# Altium footprint library 接插件.PcbLib: 22 footprints (part 1 of 2)
Each footprint in its own frame and in the unit in brackets; x right, y up, seen from the top. Pads: shape width x height; smd on the part's side, far side on the other; paste and mask are expansions set on the pad; w line width, h text height; cw(c..) or ccw(c..) is an arc to the next point about the centre after c.
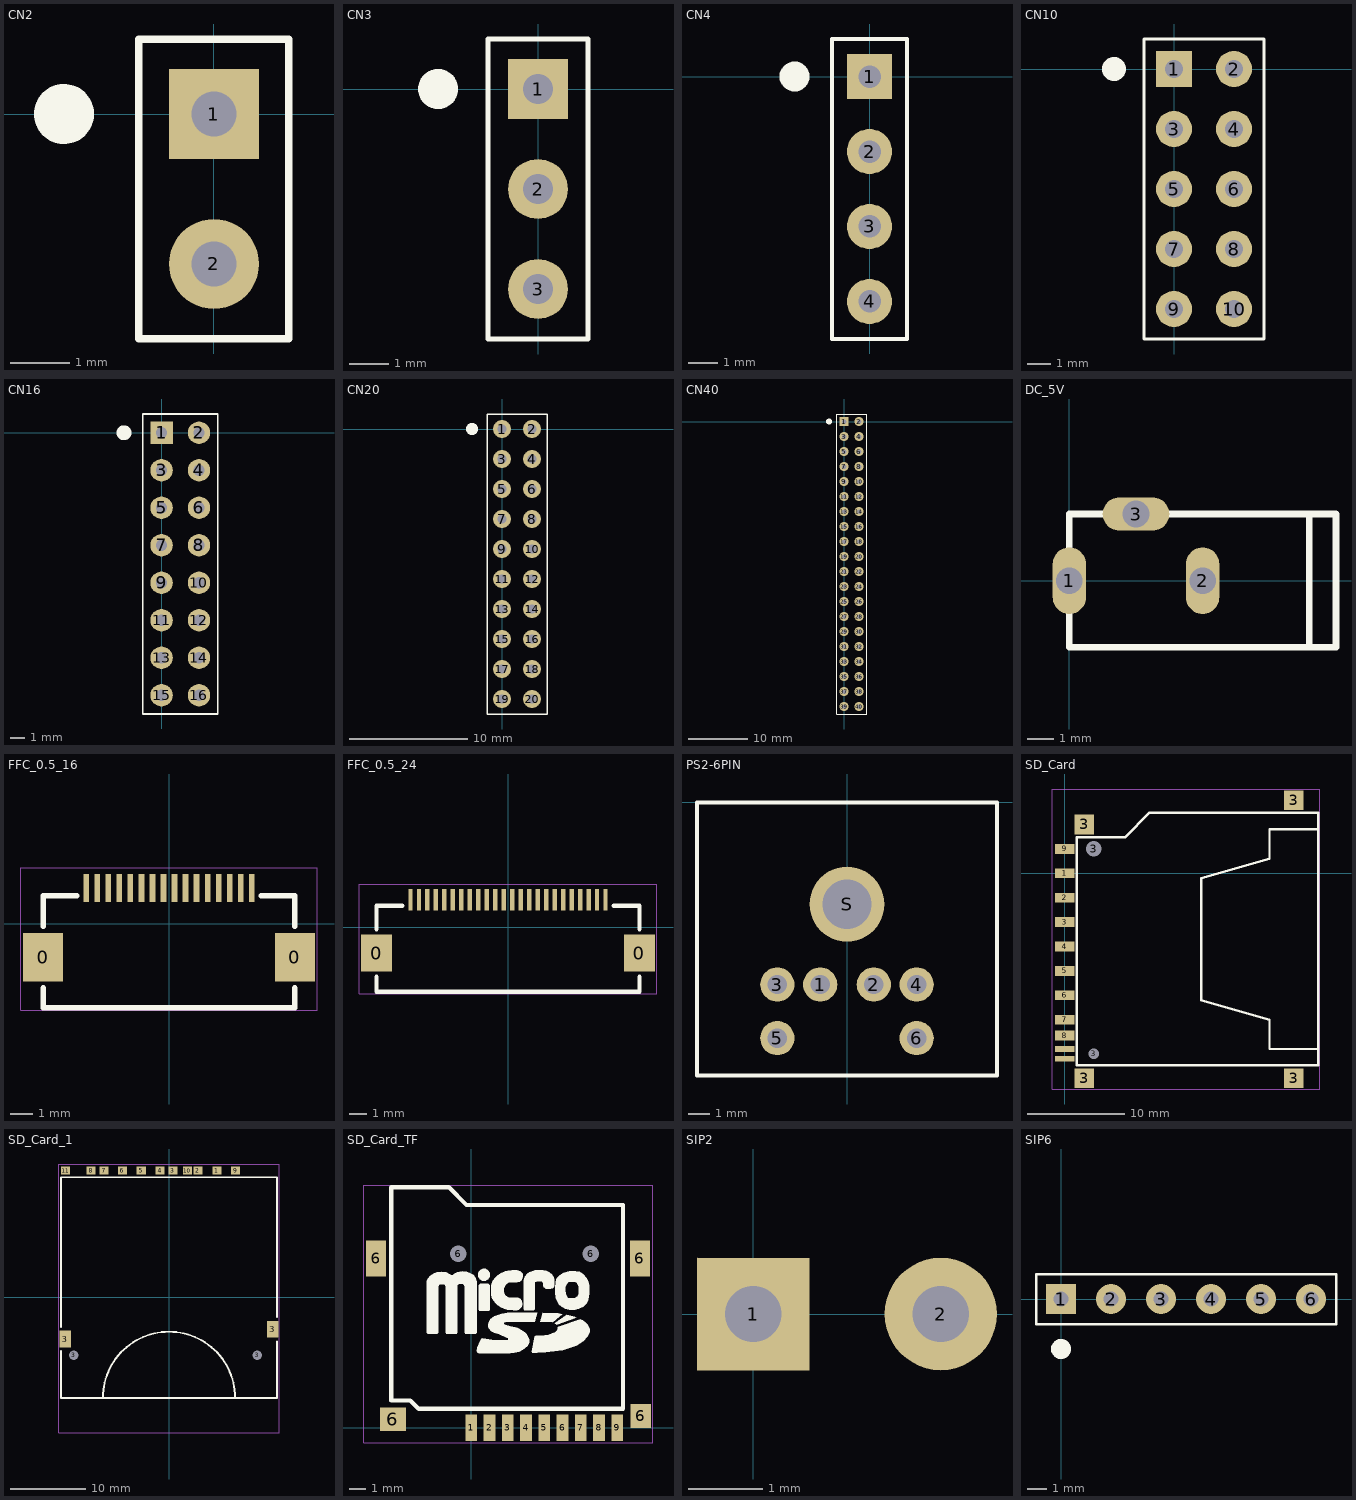
[diagram p0: the footprints below, top view; thin cyan lines are the x and y axes]

## CN2 [mil] "Header 2 X 1"
pads (2):
  rect 60x60 hole 30: 1(0,0)
  round 60 hole 30: 2(0,-100)
Top Overlay:
  circle w20: c-100,0 r10
  lines w5: -50,-150 -50,50 50,50 50,-150 -50,-150

## CN3 [mil] "Hesder 3 X 1"
pads (3):
  rect 60x60 hole 30: 1(0,0)
  round 60 hole 30: 2(0,-100) 3(0,-200)
Top Overlay:
  circle w20: c-100,0 r10
  lines w5: -50,-250 -50,50 50,50 50,-250 -50,-250

## CN4 [mil] "Header 4 X 1"
pads (4):
  rect 60x60 hole 30: 1(0,0)
  round 60 hole 30: 2(0,-100) 3(0,-200) 4(0,-300)
Top Overlay:
  circle w20: c-100,0 r10
  lines w5: -50,-350 50,-350 50,50 -50,50 -50,-350

## CN10 [mil] "Header 5 X 2"
pads (10):
  rect 60x60 hole 30: 1(0,0)
  round 60 hole 30: 2(100,0) 3(0,-100) 4(100,-100) 5(0,-200) 6(100,-200) 7(0,-300) 8(100,-300) 9(0,-400) 10(100,-400)
Top Overlay:
  circle w20: c-100,0 r10
  lines w5: -50,-450 -50,50 150,50 150,-450 -50,-450

## CN16 [mil] "Header 8 X 2"
pads (16):
  rect 60x60 hole 30: 1(0,0)
  round 60 hole 30: 2(100,0) 3(0,-100) 4(100,-100) 5(0,-200) 6(100,-200) 7(0,-300) 8(100,-300) 9(0,-400) 10(100,-400) 11(0,-500) 12(100,-500) 13(0,-600) 14(100,-600) 15(0,-700) 16(100,-700)
Top Overlay:
  circle w20: c-100,0 r10
  lines w5: -50,-750 -50,50 150,50 150,-750 -50,-750

## CN20 [mil] "Header 10 X 2"
pads (20):
  round 60 hole 30: 1(0,0) 2(100,0) 3(0,-100) 4(100,-100) 5(0,-200) 6(100,-200) 7(0,-300) 8(100,-300) 9(0,-400) 10(100,-400) 11(0,-500) 12(100,-500) 13(0,-600) 14(100,-600) 15(0,-700) 16(100,-700) 17(0,-800) 18(100,-800) 19(0,-900) 20(100,-900)
Top Overlay:
  circle w20: c-100,0 r10
  lines w5: -50,-950 -50,50 150,50 150,-950 -50,-950

## CN40 [mil] "Hesder 20 X 2"
pads (40):
  rect 60x60 hole 30: 1(0,0)
  round 60 hole 30: 2(100,0) 3(0,-100) 4(100,-100) 5(0,-200) 6(100,-200) 7(0,-300) 8(100,-300) 9(0,-400) 10(100,-400) 11(0,-500) 12(100,-500) 13(0,-600) 14(100,-600) 15(0,-700) 16(100,-700) 17(0,-800) 18(100,-800) 19(0,-900) 20(100,-900) 21(0,-1000) 22(100,-1000) 23(0,-1100) 24(100,-1100) 25(0,-1200) 26(100,-1200) 27(0,-1300) 28(100,-1300) 29(0,-1400) 30(100,-1400) 31(0,-1500) 32(100,-1500) 33(0,-1600) 34(100,-1600) 35(0,-1700) 36(100,-1700) 37(0,-1800) 38(100,-1800) 39(0,-1900) 40(100,-1900)
Top Overlay:
  circle w20: c-100,0 r10
  lines w5: -50,-1950 -50,0 -50,50 150,50 150,-1950 -50,-1950

## DC_5V [mil] "DC 5.0V"
pads (3):
  oval 50x100 hole 40: 1(0,0) 2(200,0)
  oval 100x50 hole 40: 3(100,100)
Top Overlay:
  lines w10: 360,-100 360,100 ; 0,-100 400,-100 400,100 0,100 0,-100

## FFC_0.5_16 [mil]
height 78.74
pads (18):
  rect 72x86 smd: 0(-225,-60) 0(225,-60)
  rect 10x50 smd: 1(-147.64,64) 2(-127.95,64) 3(-108.27,64) 4(-88.58,64) 5(-68.9,64) 6(-49.21,64) 7(-29.53,64) 8(-9.84,64) 9(9.84,64) 10(29.53,64) 11(49.21,64) 12(68.9,64) 13(88.58,64) 14(108.27,64) 15(127.95,64) 16(147.64,64)
Top Overlay:
  lines w10: -225,-115 -225,-150 225,-150 225,-115 ; -225,-5 -225,50 -165,50 ; 165,50 225,50 225,-5
Mechanical 14:
  lines w2: -265,-155 -265,100 265,100 265,-155 -265,-155
3D body: height 81.71, standoff -1.16, extent -265.75,-155.07 265.75,55

## FFC_0.5_24 [mm] "Connector; FH12 Series; 24 Position; 0.5mm Spaced Bottom Contact"
height 2
pads (26):
  rect 1.829x2.184 smd: 0(-7.747,-1.524) 0(7.747,-1.524)
  rect 0.254x1.27 smd: 1(-5.75,1.625) 2(-5.25,1.625) 3(-4.75,1.625) 4(-4.25,1.625) 5(-3.75,1.625) 6(-3.25,1.625) 7(-2.75,1.625) 8(-2.25,1.625) 9(-1.75,1.625) 10(-1.25,1.625) 11(-0.75,1.625) 12(-0.25,1.625) 13(0.25,1.625) 14(0.75,1.625) 15(1.25,1.625) 16(1.75,1.625) 17(2.25,1.625) 18(2.75,1.625) 19(3.25,1.625) 20(3.75,1.625) 21(4.25,1.625) 22(4.75,1.625) 23(5.25,1.625) 24(5.75,1.625)
Top Overlay:
  lines w0.254: -7.747,-2.921 -7.747,-3.81 7.747,-3.81 7.747,-2.921 ; -7.747,-0.127 -7.747,1.27 -6.223,1.27 ; 6.223,1.27 7.747,1.27 7.747,-0.127
Mechanical 14:
  lines w0.051: -8.763,-3.937 -8.763,2.54 8.763,2.54 8.763,-3.937 -8.763,-3.937
3D body: height 2.08, standoff -0.03, extent -8.75,-3.929 8.75,1.407

## PS2-6PIN [mm] "PS2 Socket, 6 Pin, Through Hole"
pads (7):
  round 1.6 hole 0.9: 1(-1.25,-8.5) 2(1.25,-8.5) 3(-3.25,-8.5) 4(3.25,-8.5) 5(-3.25,-11) 6(3.25,-11)
  round 3.5 hole 2.3: S(0,-4.75)
Top Overlay:
  lines w0.2: -7,-12.75 -7,0 7,0 7,-12.75 -7,-12.75

## SD_Card [mm]
pads (17):
  rect 2x1 smd: 1(0,0) 2(0,-2.5) 3(0,-5) 4(0,-7.5) 5(0,-10) 6(0,-12.5) 7(0,-15) 8(0,-16.625) 9(0,2.5)
  rect 2x2 smd: 3(2,-21) 3(2,5) 3(23.5,-21) 3(23.5,7.5)
  round 1 hole 1.1 mask+0: 3(3,-18.5)
  round 1.5 hole 1.6 mask+0: 3(3,2.5)
  rect 2x0.6 smd: 10(0,-18) 11(0,-19)
Top Overlay:
  lines w0.254: 26,-18 21,-18 21,-15 14,-13 14,-0.5 21,1.5 21,4.5 26,4.5 ; 1.27,-19.685 26,-19.685 26,6.223 8.723,6.223 6.183,3.683 1.27,3.683 1.27,-19.685
Mechanical 14:
  lines w0.051: -1.27,-22.098 -1.27,8.636 26.162,8.636 26.162,-22.098 -1.27,-22.098
3D body: height 3.32, standoff -0.58, extent -0.203,-20.853 26.047,7.122
3D body: height 2.17, standoff 0.87, extent 5.082,-18.731 37.082,5.269

## SD_Card_1 [mil]
pads (15):
  rect 47.24x40 smd: 1(249.02,661) 2(150.59,661) 3(20.67,661) 4(-46.26,661) 5(-144.69,661) 6(-243.11,661) 7(-338.58,661) 8(-405.51,661) 9(347.44,661) 10(95.47,661) 11(-538.58,661)
  rect 60x88 smd: 3(-541,-217) 3(541,-166)
  round 40 hole 50 mask+0: 3(-496,-301) 3(460,-302)
Top Overlay:
  lines w10: -562.2,-280 -562.2,-524 562.2,-524 562.2,-229 ; -562.2,-154 -562.2,626 562.2,626 562.2,-103 ; -344.49,-522.5 cw(c0,-523.5) 344.49,-522.5
Mechanical 14:
  lines w2: -575,-705 575,-705 575,695 -575,695 -575,-705
3D body: height 85.59, standoff 34.41, extent -477.44,-794.19 467.44,465.65
3D body: height 104.33, standoff -27.56, extent -571.93,-522.41 561.93,670.5

## SD_Card_TF [mil]
pads (15):
  rect 28x62 smd: 1(0,0) 2(43.31,0) 3(86.61,0) 4(129.92,0) 5(173.23,0) 6(216.54,0) 7(259.84,0) 8(303.15,0) 9(346.46,0)
  rect 48x86 smd: 6(-226,402) 6(400,402)
  rect 62x56 smd: 6(-186,20)
  round 30 hole 39.37 mask+0: 6(-31.5,413.39) 6(283.46,413.39)
  rect 48x56 smd: 6(402,28)
Top Overlay:
  drawing of 18 lines, arcs and shapes, not listed
Mechanical 14:
  lines w2: -255,-35 430,-35 430,575 -255,575 -255,-35
3D body: height 78.76, standoff -18.62, extent -235.25,-26.82 406.74,572

## SIP2 [mil] "SIP2"
pads (2):
  rect 60x60 hole 30: 1(0,0)
  round 60 hole 30: 2(100,0)

## SIP6 [mil] "SIP6"
pads (6):
  rect 60x60 hole 30: 1(0,0)
  round 60 hole 30: 2(100,0) 3(200,0) 4(300,0) 5(400,0) 6(500,0)
Top Overlay:
  circle w20: c0,-100 r10
  lines w5: -50,-50 -50,50 550,50 550,-50 -50,-50